# Altium schematic symbol library LED.SchLib: 4 symbols
Pins are listed as number, name and electrical type; pins without a type are passive.

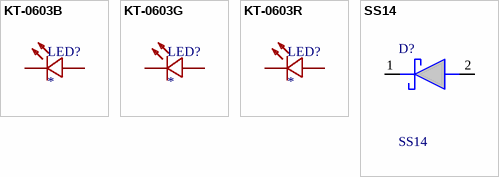
[diagram p0: symbols KT-0603B to SS14]

## KT-0603B
designator LED?
footprint LED0603-BL
pins: 1 K, 2 A

## KT-0603G
designator LED?
footprint LED0603-GR
pins: 1 K, 2 A

## KT-0603R
designator LED?
footprint LED0603-RD
pins: 1 K, 2 A

## SS14
designator D?
TAIWAN SEMICONDUCTOR - SS14 - SCHOTTKY RECTIFIER, 1A, 40V, DO-214AC; Geometry.Height: 2.5mm; Mouser Part Number: 821-SS14; Mouser Price/Stock: https://www.mouser.co.uk/ProductDetail/Taiwan-Semiconductor/SS14?qs=JV7lzlMm3yLIdi0ESVd3YQ%3D%3D; Manufacturer_Name: Taiwan Semiconductor; Manufacturer_Part_Number: SS14; Datasheet Link: https://www.taiwansemi.com/assets/uploads/datasheet/SS12%20SERIES_Q2102.pdf
footprint DIOM5126X250N
footprint DIOM5126X250N
pins: 1 K, 2 A